# Altium footprint library DIOAD753W49L380D172B.PcbLib: 1 footprints
Each footprint in its own frame and in the unit in brackets; x right, y up, seen from the top. Pads: shape width x height; smd on the part's side, far side on the other; paste and mask are expansions set on the pad; w line width, h text height; cw(c..) or ccw(c..) is an arc to the next point about the centre after c.
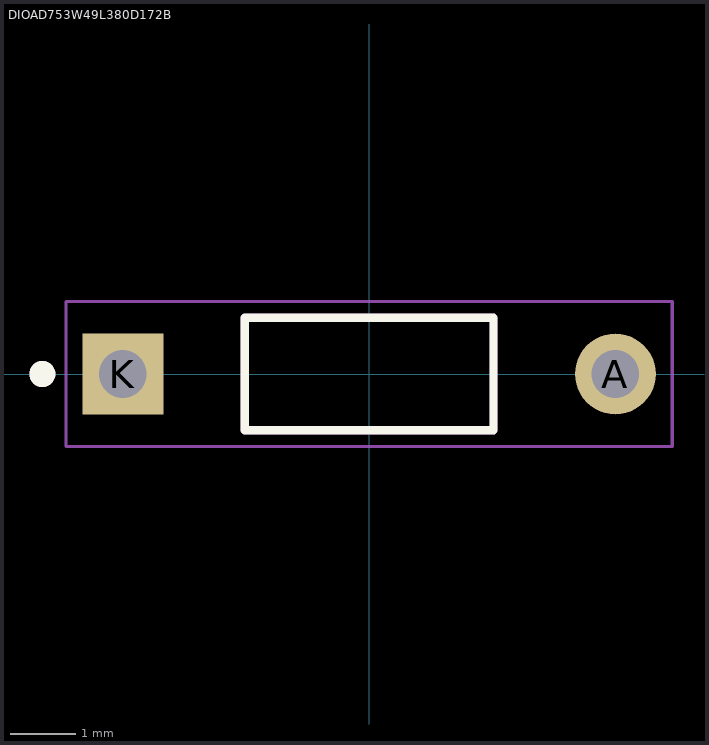
[diagram p0: the footprint, top view; thin cyan lines are the x and y axes]

## DIOAD753W49L380D172B [mm]
height 1.91
pads (2):
  round 1.238 hole 0.73: A(3.768,0)
  rect 1.238x1.238 / inner round 1.238 / far side rect 1.238x1.238 hole 0.73: K(-3.768,0)
Top Overlay:
  circle w0.2: c-5,0 r0.1
  lines w0.127: -1.903,-0.86 1.903,-0.86 1.903,0.86 -1.903,0.86 -1.903,-0.86
Assembly Top:
  circle w0.2: c-5,0 r0.1
  lines w0.127: -1.903,-0.86 1.903,-0.86 1.903,0.86 -1.903,0.86 -1.903,-0.86
Courtyard Top:
  lines w0.05: -4.637,-1.11 4.637,-1.11 4.637,1.11 -4.637,1.11 -4.637,-1.11
3D body "step_temp.STEP": height 1.91, standoff -22.92, extent -4.003,-0.955 4.003,0.955